# Altium schematic symbol library Standard.SchLib: 2 symbols
Pins are listed as number, name and electrical type; pins without a type are passive.

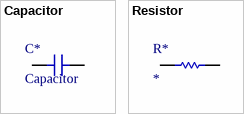
[diagram p0: symbols Capacitor to Resistor]

## Capacitor
designator C*
footprint 0402
footprint 0603
footprint 0805
footprint 1206
pins: 1, 2

## Resistor
designator R*
Resistor
footprint 0402
footprint 0603
footprint 0805
footprint 1206
pins: 1, 2